# Altium integrated library Buzzers.IntLib: 1 symbol
Pins are listed as number, name and electrical type; pins without a type are passive.

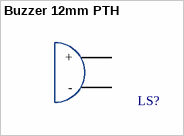
[diagram p0: symbol Buzzer 12mm PTH]

## Buzzer 12mm PTH
designator LS?  (value not drawn)
Buzzers Transducer, Externally Driven Magnetic 5V 40mA 2.4kHz 87dB @ 5V, 10cm Through Hole PC Pins; Manufacturer 1: PUI Audio, Inc.; Manufacturer 1 PN: AT-1224-TWT-5V-2-R; Digikey PN: 668-1470-ND; Mouser PN: 665-AT1224TWT5V2R
footprint Buzzer 12mm PTH (Buzzers Transducer, Externally Driven Magnetic 5V 40mA 2.4kHz 87dB @ 5V, 10cm Through Hole PC Pins)
pins: 1 + (power), 2 - (power)